# EAGLE library part POLOLU-A4988 (library Pololu-A4988)
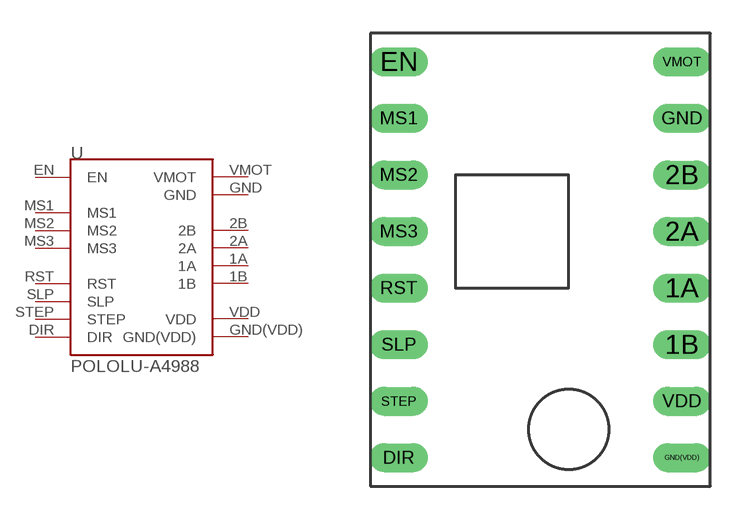
[diagram p0: symbol with the pads of DIL_A4988; footprint DIL_A4988]

Designator prefix -

## POLOLU-A4988  [DIL_A4988]
1A  1A  out
1B  1B  out
2A  2A  out
2B  2B  out
DIR  DIR  in
EN  EN  in
GND  GND  pwr
GND(VDD)  GND(VDD)  pwr
MS1  MS1  in
MS2  MS2  in
MS3  MS3  in
RST  RST  in
SLP  SLP  in
STEP  STEP  in
VDD  VDD  pwr
VMOT  VMOT  pwr

## Footprint DIL_A4988 (pad centres in mm)
drill 0.8 long: 1A 12.7,7.62; 1B 12.7,5.08; 2A 12.7,10.16; 2B 12.7,12.7; DIR 0,0; EN 0,17.78; GND 12.7,15.24; GND(VDD) 12.7,0; MS1 0,15.24; MS2 0,12.7; MS3 0,10.16; RST 0,7.62; SLP 0,5.08; STEP 0,2.54; VDD 12.7,2.54; VMOT 12.7,17.78